# Altium footprint library Relay.PcbLib: 14 footprints
Each footprint in its own frame and in the unit in brackets; x right, y up, seen from the top. Pads: shape width x height; smd on the part's side, far side on the other; paste and mask are expansions set on the pad; w line width, h text height; cw(c..) or ccw(c..) is an arc to the next point about the centre after c.
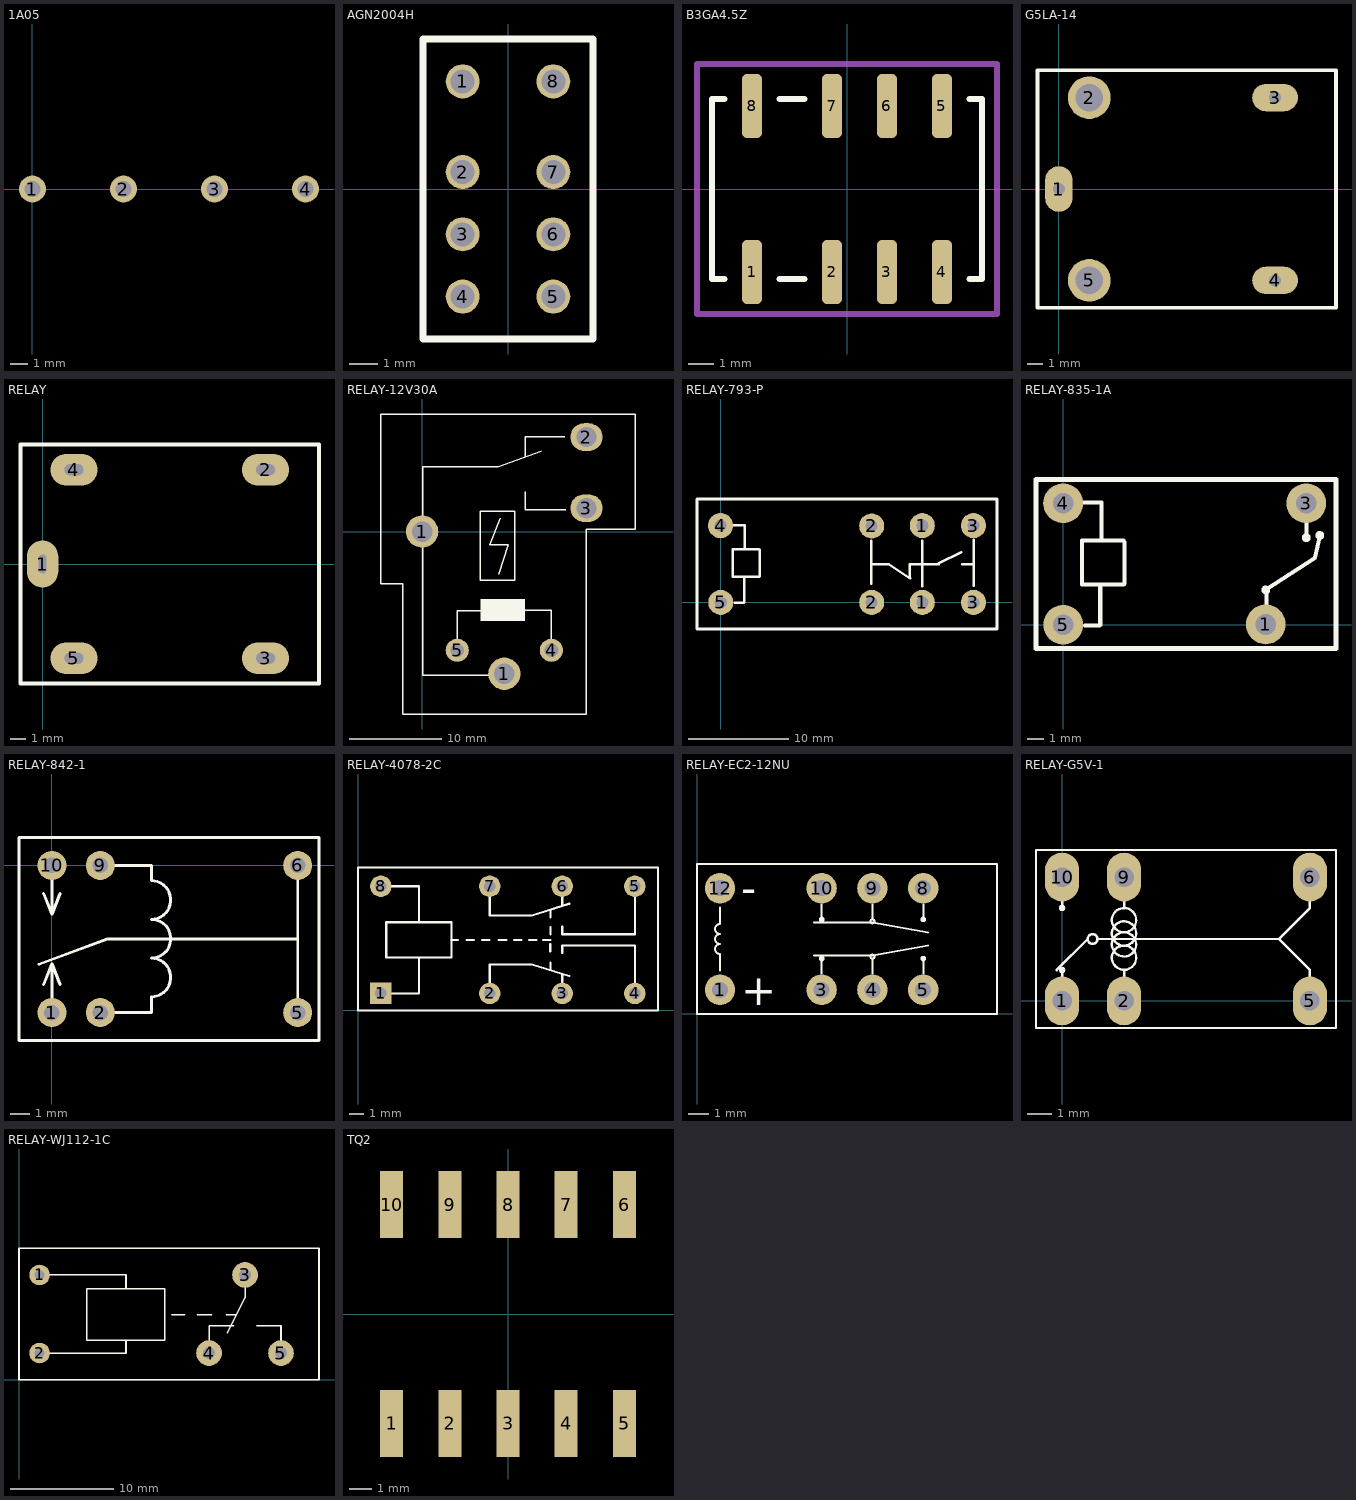
[diagram p0: the footprints below, top view; thin cyan lines are the x and y axes]

## 1A05 [mm]
height 7.62
pads (4):
  round 1.5 hole 0.9: 1(0,0) 2(5.08,0) 3(10.16,0) 4(15.24,0)

## AGN2004H [mm]
height 9
pads (8):
  round 1.2 hole 0.85: 1(-1.6,3.8) 2(-1.6,0.6) 3(-1.6,-1.6) 4(-1.6,-3.8) 5(1.6,-3.8) 6(1.6,-1.6) 7(1.6,0.6) 8(1.6,3.8)
Top Overlay:
  lines w0.254: -3,-5.3 3,-5.3 3,5.3 -3,5.3 -3,-5.3
3D body: height 9, standoff 0.5, extent -2.9,-5.2 2.9,5.2

## B3GA4.5Z [mm]
pads (8):
  rrect50% 0.8x2.56 smd: 1(-3.8,-3.32) 2(-0.6,-3.32) 3(1.6,-3.32) 4(3.8,-3.32) 5(3.8,3.32) 6(1.6,3.32) 7(-0.6,3.32) 8(-3.8,3.32)
Top Overlay:
  lines w0.254: -4.9,-3.6 -5.4,-3.6 -5.4,3.6 -4.9,3.6 ; -2.7,-3.6 -1.7,-3.6 ; -2.7,3.6 -1.7,3.6 ; 4.9,-3.6 5.4,-3.6 5.4,3.6 4.9,3.6
Mechanical 15:
  lines w0.254: -6,-5 6,-5 6,5 -6,5 -6,-5
3D body: height 5.45, standoff 1.05, extent -5.4,-3.6 5.4,3.6

## G5LA-14 [mm]
pads (5):
  oval 1.8x3 hole 0.8 square: 1(0,0)
  round 2.8 hole 1.8: 2(2,6) 5(2,-6)
  oval 3x1.8 hole 0.8 square: 3(14.2,6) 4(14.2,-6)
Top Overlay:
  lines w0.254: -1.4,-7.8 18.2,-7.8 18.2,7.8 -1.4,7.8 -1.4,-7.8
3D body: height 15.8, standoff 0.4, extent -1.4,-7.8 18.2,7.8

## RELAY [mm]
pads (5):
  oval 2x3 hole 0.5 slot 1.2 at 90 deg: 1(0,0)
  oval 3x2 hole 0.7 slot 1.2 at 0 deg: 2(14.2,6) 3(14.2,-6) 4(2,6) 5(2,-6)
Top Overlay:
  lines w0.254: -1.4,-7.6 17.6,-7.6 17.6,7.6 -1.4,7.6 -1.4,-7.6
3D body: height 15.5, standoff 0.5, extent -1.4,-7.6 17.6,7.6

## RELAY-12V30A [mm]
pads (6):
  round 3.5 hole 2.2: 1(0,0) 1(8.9,-15.4)
  oval 3.5x3 hole 2.2: 2(17.8,10.24) 3(17.8,2.54)
  round 2.5 hole 1.5: 4(14,-12.86) 5(3.8,-12.86)
Top Overlay:
  region: 11.147,-9.677 11.147,-7.315 6.296,-7.315 6.296,-9.677
  lines w0.15: 3.779,-12.979 3.779,-8.585 6.903,-8.585 ; 8.275,-4.623 9.342,-1.448 7.335,-1.448 8.453,1.473 ; 8.935,-15.545 0.045,-15.545 0.045,7.036 8.224,7.036 12.923,8.687 ; 10.282,-8.509 13.965,-8.509 13.965,-12.522 ; 11.145,4.318 11.145,2.388 15.565,2.388 ; 11.145,8.153 11.145,10.287 15.463,10.287 ; -4.5,-5.66 -4.5,12.74 23.1,12.74 23.1,0.24 17.8,0.24 17.8,-19.76 -2.1,-19.76 -2.1,-5.66 -4.499,-5.66 ; 6.294,-5.258 6.294,2.184 10.053,2.184 10.053,-5.258 6.294,-5.258
3D body "User Library-RELAY-RT1-24-30-A.step": height 20.2, standoff -2.8, extent -4.2,-19.51 22.8,12.49

## RELAY-793-P [mil]
pads (8):
  round 98 hole 47.24: 1(788,0) 1(788,300) 2(590,0) 2(590,299) 3(988,0) 3(988,300) 5(0,0)
  round 98.43 hole 47.24: 4(-0.98,300)
Top Overlay:
  lines w10: 43.31,302.17 94.49,302.17 94.49,210.63 ; 54.13,-1.97 89.57,-1.97 ; 91.54,0 91.54,99.41 ; 588.58,72.83 588.58,240.16 ; 588.58,149.61 653.54,149.61 ; 657.48,149.61 653.54,149.61 ; 738.19,95.47 738.19,149.61 786.42,149.61 ; 740.16,93.5 654.53,149.61 653.54,149.61 ; 788.39,62.99 788.39,241.14 ; 788.39,149.61 852.36,149.61 852.36,152.56 940.95,195.87 ; 944.88,149.61 989.17,149.61 ; 989.17,64.96 989.17,244.09 ; 46.26,99.41 46.26,207.68 148.62,207.68 151.57,204.72 151.57,101.38 149.61,99.41 46.26,99.41
  lines w12: -93,-104 -93,404 1080,404 1080,-104 -93,-104
3D body "User Library-LM1H.step": height 822.83, standoff -157.09, extent -87.21,-96.06 1074.21,396.06

## RELAY-835-1A [mil]
pads (4):
  round 98 hole 51.18: 1(500,1) 3(600,300) 5(0,0)
  round 98.43 hole 51.18: 4(0,300)
Top Overlay:
  circle w5.91: c633.25,220.4 r7.87
  circle w5.91: c600,215.07 r7.87
  circle w5.91: c500,85.93 r7.87
  lines w10: 43.31,302.17 94.49,302.17 94.49,210.63 ; 54.13,-1.97 89.57,-1.97 ; 91.54,0 91.54,99.41 ; 500,85.93 621.88,165.78 633.25,220.4 ; 501.57,1 501.57,85.93 ; 600,215.07 600,300 ; 46.26,99.41 46.26,207.68 148.62,207.68 151.57,204.72 151.57,101.38 149.61,99.41 46.26,99.41
  lines w12: -66.93,-58.66 -66.93,358.66 673.23,358.66 673.23,-58.66 -66.93,-58.66
3D body "User Library-TRC.step": height 590.55, standoff -137.8, extent -55.12,-50.98 661.42,350.98

## RELAY-842-1 [mm]
pads (6):
  round 1.5 hole 0.8 unplated: 1(0,-7.6)
  round 1.5 hole 0.8: 2(2.5,-7.6) 5(12.7,-7.6) 6(12.7,0) 9(2.5,0) 10(0,0)
Top Overlay:
  lines w0.15: -0.663,-5.103 2.853,-3.8 12.7,-3.8 ; -0.424,-6.145 0,-5.078 ; -0.424,-1.455 0,-2.522 ; 0,-7.6 0,-5.078 ; 0,0 0,-2.522 ; 0.424,-6.145 0,-5.078 ; 0.424,-1.455 0,-2.522 ; 2.5,-7.6 5.139,-7.6 5.139,-6.785 ccw(c5.139,-5.785) 5.139,-4.785 ccw(c5.139,-3.785) 5.139,-2.785 ccw(c5.139,-1.785) 5.139,-0.785 5.139,0 2.5,0 ; 12.7,-7.6 12.7,0 ; -1.7,-9.05 13.8,-9.05 13.8,1.45 -1.7,1.45 -1.7,-9.05
3D body "User Library-TRB.step": height 11.81, standoff -3.5, extent -1.7,-9.15 13.8,1.55

## RELAY-4078-2C [mm]
pads (8):
  rect 1.5x1.5 hole 0.8: 1(1.6,1.19)
  round 1.5 hole 0.8: 2(9.22,1.19) 3(14.3,1.19) 4(19.38,1.19) 5(19.38,8.69) 6(14.3,8.69) 7(9.22,8.69) 8(1.6,8.69)
Top Overlay:
  lines w0.15: 1.6,1.19 4.267,1.19 4.267,3.708 ; 1.6,8.69 4.267,8.69 4.267,6.172 ; 6.528,4.928 7,4.928 ; 7.595,4.928 8.121,4.928 ; 8.687,4.928 9.213,4.928 ; 9.22,1.19 9.22,3.226 12.192,3.226 14.783,2.413 ; 9.22,8.69 9.22,6.654 12.192,6.654 14.783,7.467 ; 9.855,4.928 10.382,4.928 ; 10.922,4.928 11.448,4.928 ; 11.963,4.928 12.49,4.928 ; 12.954,4.928 13.48,4.928 ; 13.462,4.122 13.462,4.648 ; 13.487,2.819 13.487,3.346 ; 13.487,5.316 13.487,5.842 ; 13.487,6.509 13.487,7.036 ; 14.3,1.19 14.3,2.515 ; 14.3,4.013 14.3,4.547 19.38,4.547 19.38,1.19 ; 14.3,5.867 14.3,5.333 19.38,5.333 19.38,8.69 ; 14.3,7.365 14.3,8.69 ; 0,0 21,0 21,10 0,10 0,0 ; 1.981,3.708 1.981,6.172 6.553,6.172 6.553,3.708 1.981,3.708
3D body "User Library-DSY2Y.step": height 3, standoff -12.3, extent 0.1,0.1 20.9,9.9

## RELAY-EC2-12NU [mm]
pads (8):
  round 1.524 hole 0.8: 1(1.15,1.21) 3(6.23,1.21) 4(8.77,1.21) 5(11.31,1.21) 8(11.31,6.29) 9(8.77,6.29) 10(6.23,6.29) 12(1.15,6.29)
Top Overlay:
  circle w0.1: c6.234,4.73 r0.09
  circle w0.1: c8.772,4.637 r0.1
  circle w0.1: c11.314,4.73 r0.09
  circle w0.1: c11.314,2.77 r0.09
  circle w0.1: c8.772,2.863 r0.1
  circle w0.1: c6.234,2.77 r0.09
  lines w0.1: 1.15,2.163 1.15,3 cw(c1.15,3.25) 1.15,3.5 cw(c1.15,3.75) 1.15,4 cw(c1.15,4.25) 1.15,4.5 1.15,5.338 ; 5.844,2.926 8.77,2.926 11.559,3.426 ; 5.844,4.574 8.77,4.574 11.559,4.074 ; 6.234,2.025 6.234,2.77 ; 6.234,4.73 6.234,5.475 ; 8.772,2.026 8.772,2.761 ; 8.772,4.739 8.772,5.474 ; 11.314,2.025 11.314,2.77 ; 11.314,4.73 11.314,5.475 ; 0,0 15,0 15,7.5 0,7.5 0,0
  text "-" at 2.211,5.528 h1.52
  text "+" at 2.211,0.448 h1.52
3D body "User Library-TX2-5V.STEP": height 8.2, standoff -3.5, extent 0,0.049 15,7.449

## RELAY-G5V-1 [mm]
pads (6):
  oval 1.4x2 hole 0.8: 1(0,0) 2(2.54,0) 5(10.16,0) 6(10.16,5.08) 9(2.54,5.08) 10(0,5.08)
Top Overlay:
  circle w0.1: c2.54,2.768 r0.498
  circle w0.1: c2.54,1.774 r0.498
  circle w0.1: c2.54,2.319 r0.498
  circle w0.1: c2.54,3.312 r0.498
  circle w0.1: c0,3.81 r0.08
  circle w0.1: c0,1.27 r0.08
  circle w0.1: c1.247,2.54 r0.2
  lines w0.1: -0.224,1.264 1.052,2.54 ; 0,0.797 0,1.27 ; 0,3.81 0,4.267 ; 1.447,2.54 8.89,2.54 ; 2.54,0.802 2.54,1.27 ; 2.54,3.81 2.54,4.282 ; 10.16,0.793 10.16,1.27 8.89,2.54 ; 10.16,4.275 10.16,3.81 8.89,2.54 ; -1.07,-1.11 -1.07,6.19 11.23,6.19 11.23,-1.11 -1.07,-1.11
3D body "User Library-G5V-1.step": height 10, standoff -3, extent -1.17,-1.21 11.33,6.29

## RELAY-WJ112-1C [mm]
pads (5):
  round 2 hole 1: 1(2,10.2) 2(2,2.6)
  round 2.5 hole 1.2: 3(22,10.2) 4(18.5,2.6) 5(25.5,2.6)
Top Overlay:
  lines w0.15: 2,2.6 10.414,2.6 10.414,3.861 ; 2,10.2 10.414,10.2 10.414,8.839 ; 14.859,6.325 16.129,6.325 ; 17.374,6.325 18.745,6.325 ; 18.5,2.6 18.5,5.258 20.879,5.258 ; 20.168,6.325 21.082,6.325 ; 20.27,4.571 22,8 22,10.2 ; 23.121,5.258 25.5,5.258 25.5,2.6 ; 0,0 0,12.8 29.2,12.8 29.2,0 0,0 ; 6.579,3.861 6.579,8.839 14.199,8.839 14.199,3.861 6.579,3.861
3D body "User Library-RelayLM1-12D_H25_5mm.STEP": height 25.96, standoff -4.04, extent -0.1,0.1 29.3,12.7

## TQ2 [mm]
pads (10):
  rect 1x2.94 smd paste-0.5: 1(-5.08,-4.78) 2(-2.54,-4.78) 3(0,-4.78) 4(2.54,-4.78) 5(5.08,-4.78) 6(5.08,4.78) 7(2.54,4.78) 8(0,4.78) 9(-2.54,4.78) 10(-5.08,4.78)
3D body: height 4.9, standoff 0.25, extent -7,-4.5 7,4.5